# Altium footprint library Custom_Footprints.PcbLib: 10 footprints
Each footprint in its own frame and in the unit in brackets; x right, y up, seen from the top. Pads: shape width x height; smd on the part's side, far side on the other; paste and mask are expansions set on the pad; w line width, h text height; cw(c..) or ccw(c..) is an arc to the next point about the centre after c.
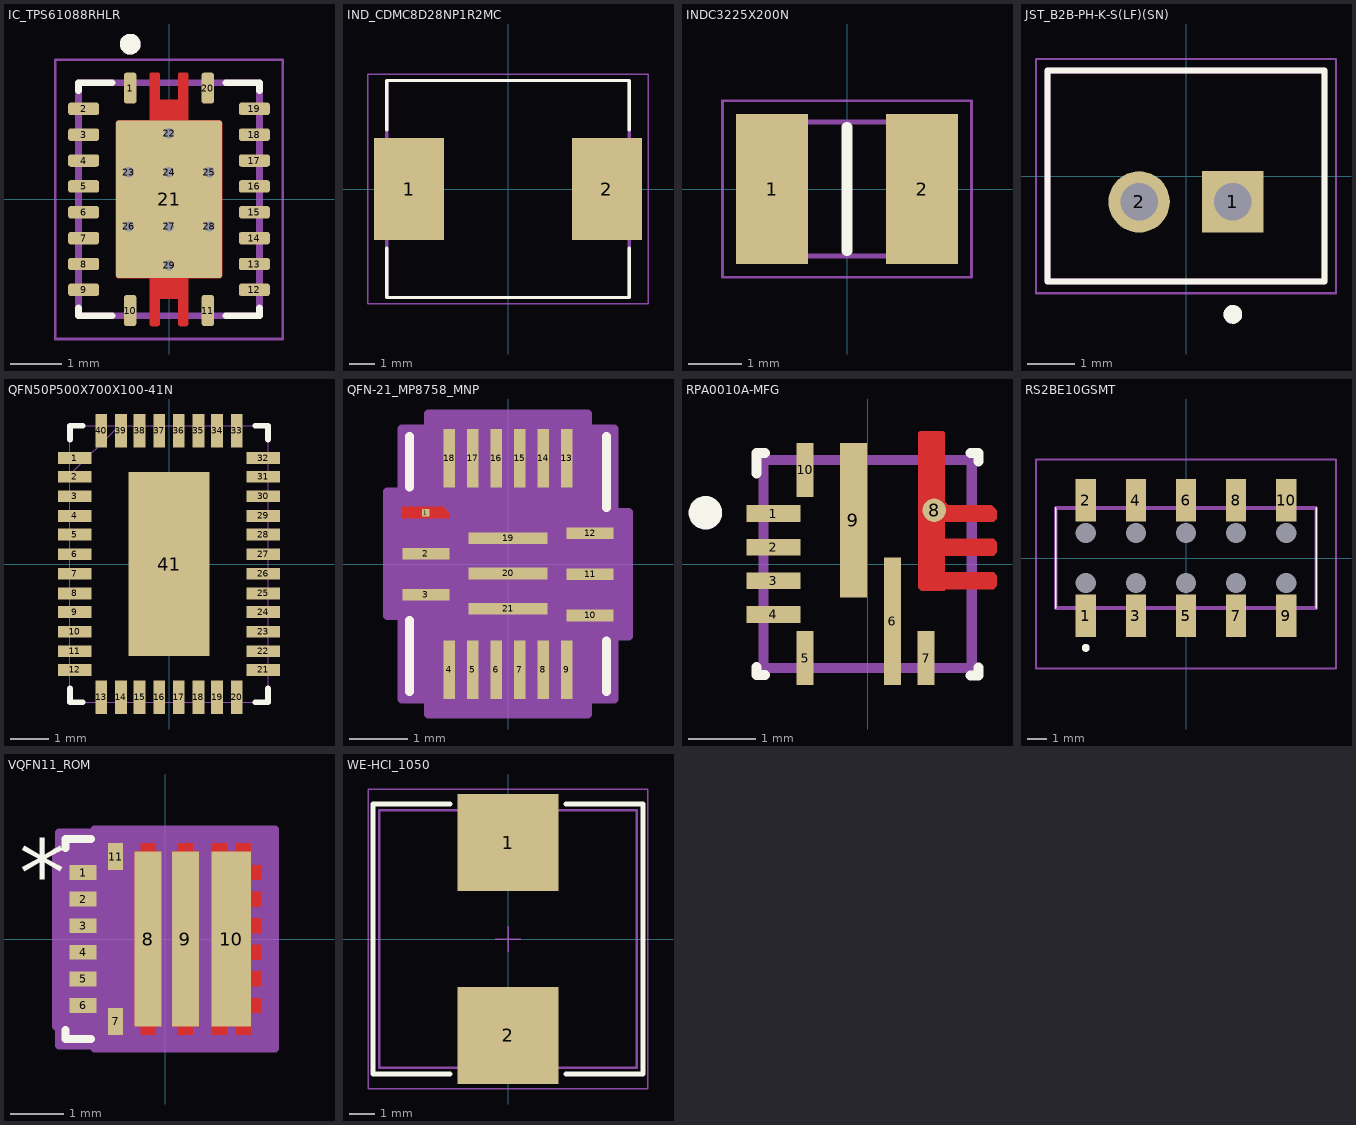
[diagram p0: the footprints below, top view; thin cyan lines are the x and y axes]

## IC_TPS61088RHLR [mm]
pads (29):
  rrect42% 0.24x0.6 smd: 1(-0.75,2.15) 10(-0.75,-2.15) 11(0.75,-2.15) 20(0.75,2.15)
  rrect42% 0.6x0.24 smd: 2(-1.65,1.75) 3(-1.65,1.25) 4(-1.65,0.75) 5(-1.65,0.25) 6(-1.65,-0.25) 7(-1.65,-0.75) 8(-1.65,-1.25) 9(-1.65,-1.75) 12(1.65,-1.75) 13(1.65,-1.25) 14(1.65,-0.75) 15(1.65,-0.25) 16(1.65,0.25) 17(1.65,0.75) 18(1.65,1.25) 19(1.65,1.75)
  rrect5% 2.05x3.05 smd paste-3: 21(0,0)
  round 0.3 hole 0.2: 22(0,1.275) 23(-0.775,0.525) 24(0,0.525) 25(0.775,0.525) 26(-0.775,-0.525) 27(0,-0.525) 28(0.775,-0.525) 29(0,-1.275)
Top Layer:
  region: 380 vertices and 0 holes, not listed, extent -1.025,-2.45 1.025,2.45
Top Overlay:
  circle w0.2: c-0.75,3 r0.1
  lines w0.127: -1.75,-2.1 -1.75,-2.25 -1.1,-2.25 ; -1.75,2.1 -1.75,2.25 -1.1,2.25 ; 1.1,-2.25 1.75,-2.25 1.75,-2.1 ; 1.1,2.25 1.75,2.25 1.75,2.1
Top Paste:
  drawing of 8 lines, arcs and shapes, not listed
Top Solder:
  drawing of 1 lines, arcs and shapes, not listed
Mechanical 13:
  circle w0.2: c-0.75,3 r0.1
  lines w0.127: -1.75,-2.25 1.75,-2.25 1.75,2.25 -1.75,2.25 -1.75,-2.25
Mechanical 15:
  lines w0.05: -2.2,-2.7 -2.2,2.7 2.2,2.7 2.2,-2.7 -2.2,-2.7

## IND_CDMC8D28NP1R2MC [mm]
height 3
pads (2):
  rect 2.75x4 smd paste+0 mask+0.102: 1(-3.875,0) 2(3.875,0)
Top Overlay:
  lines w0.127: -4.75,-2.315 -4.75,-4.25 4.75,-4.25 4.75,-2.315 ; -4.75,2.315 -4.75,4.25 4.75,4.25 4.75,2.315
Mechanical 13:
  lines w0.127: -4.75,-4.25 -4.75,4.25 4.75,4.25 4.75,-4.25 -4.75,-4.25
Mechanical 15:
  lines w0.05: -5.5,-4.5 -5.5,4.5 5.5,4.5 5.5,-4.5 -5.5,-4.5

## INDC3225X200N [mm]
pads (2):
  rect 1.35x2.8 smd: 1(-1.4,0) 2(1.4,0)
Top Overlay:
  lines w0.2: 0,-1.15 0,1.15
Mechanical 15:
  lines w0.1: -1.6,-1.25 1.6,-1.25 1.6,1.25 -1.6,1.25 -1.6,-1.25
Mechanical 20:
  lines w0.05: -2.325,-1.65 2.325,-1.65 2.325,1.65 -2.325,1.65 -2.325,-1.65
3D body "DFE322520FD-1R0M_P2.step": height 2, standoff 0, extent -1.6,-1.27 1.6,1.23

## JST_B2B-PH-K-S(LF)(SN) [mm]
pads (2):
  rect 1.308x1.308 / inner round 1.308 / far side rect 1.308x1.308 hole 0.8: 1(1,-0.55)
  round 1.308 hole 0.8: 2(-1,-0.55)
Top Overlay:
  circle w0.2: c1,-2.95 r0.1
  lines w0.127: -2.95,-2.25 2.95,-2.25 2.95,2.25 -2.95,2.25 -2.95,-2.25
Mechanical 13:
  circle w0.2: c1,-2.95 r0.1
  lines w0.127: -2.95,-2.25 -2.95,2.25 2.95,2.25 2.95,-2.25 -2.95,-2.25
Mechanical 15:
  lines w0.05: -3.2,-2.5 -3.2,2.5 3.2,2.5 3.2,-2.5 -3.2,-2.5
3D body "step_temp.STEP": height 6, standoff -3.4, extent -2.95,-2.25 2.95,2.25

## QFN50P500X700X100-41N [mil]
pads (41):
  rect 34x12 smd: 1(-96,108) 2(-96,89) 3(-96,69) 4(-96,49) 5(-96,30) 6(-96,10) 7(-96,-10) 8(-96,-30) 9(-96,-49) 10(-96,-69) 11(-96,-89) 12(-96,-108) 21(96,-108) 22(96,-89) 23(96,-69) 24(96,-49) 25(96,-30) 26(96,-10) 27(96,10) 28(96,30) 29(96,49) 30(96,69) 31(96,89) 32(96,108)
  rect 12x34 smd: 13(-69,-136) 14(-49,-136) 15(-30,-136) 16(-10,-136) 17(10,-136) 18(30,-136) 19(49,-136) 20(69,-136) 33(69,136) 34(49,136) 35(30,136) 36(10,136) 37(-10,136) 38(-30,136) 39(-49,136) 40(-69,136)
  rect 83x188 smd: 41(0,0)
Top Overlay:
  lines w6: -101,-127 -101,-141 -88,-141 ; -101,127 -101,141 -88,141 ; 88,-141 101,-141 101,-127 ; 88,141 101,141 101,127
Mechanical 13:
  lines w0: -101,-114 -101,-102 ; -101,-94 -101,-83 ; -101,-75 -101,-63 ; -101,-55 -101,-43 ; -101,-35 -101,-24 ; -101,-16 -101,-4 ; -101,4 -101,16 ; -101,24 -101,35 ; -101,43 -101,55 ; -101,63 -101,75 ; -101,83 -101,94 ; -101,91 -51,141 ; -101,102 -101,114 ; -75,-141 -63,-141 ; -75,141 -63,141 ; -55,-141 -43,-141 ; -55,141 -43,141 ; -35,-141 -24,-141 ; -35,141 -24,141 ; -16,-141 -4,-141 ; -16,141 -4,141 ; 4,-141 16,-141 ; 4,141 16,141 ; 24,-141 35,-141 ; 24,141 35,141 ; 43,-141 55,-141 ; 43,141 55,141 ; 63,-141 75,-141 ; 63,141 75,141 ; 101,-114 101,-102 ; 101,-94 101,-83 ; 101,-75 101,-63 ; 101,-55 101,-43 ; 101,-35 101,-24 ; 101,-16 101,-4 ; 101,4 101,16 ; 101,24 101,35 ; 101,43 101,55 ; 101,63 101,75 ; 101,83 101,94 ; 101,102 101,114 ; -101,-141 101,-141 101,141 -101,141 -101,-141

## QFN-21_MP8758_MNP [mm]
pads (21):
  rect 0.127x0.127 smd paste-0.064 mask-0.064: 1(-1.4,0.875)
  rect 0.8x0.2 smd paste+0 mask+0: 2(-1.4,0.175) 3(-1.4,-0.525) 10(1.4,-0.875) 11(1.4,-0.175) 12(1.4,0.525)
  rect 0.2x1 smd paste+0 mask+0: 4(-1,-1.8) 5(-0.6,-1.8) 6(-0.2,-1.8) 7(0.2,-1.8) 8(0.6,-1.8) 9(1,-1.8) 13(1,1.8) 14(0.6,1.8) 15(0.2,1.8) 16(-0.2,1.8) 17(-0.6,1.8) 18(-1,1.8)
  rect 1.35x0.2 smd paste+0 mask+0: 19(0,0.44) 20(0,-0.16) 21(0,-0.76)
Top Layer:
  region: -1.1,0.975 -1.8,0.975 -1.8,0.775 -1,0.775 -1,0.875
Top Overlay:
  lines w0.152: -1.676,-2.172 -1.676,-0.958 ; -1.676,1.308 -1.676,2.172 ; 1.676,-2.172 1.676,-1.308 ; 1.676,0.958 1.676,2.172
Top Paste:
  region: -1.1,0.975 -1.8,0.975 -1.8,0.775 -1,0.775 -1,0.875
Top Solder:
  region: -1.1,0.975 -1.8,0.975 -1.8,0.775 -1,0.775 -1,0.875
Mechanical 13:
  lines w0.025: -1.549,0.775 -0.279,2.045 ; -1.549,-2.045 1.549,-2.045 1.549,2.045 -1.549,2.045 -1.549,-2.045
Mechanical 15:
  region: 1.354,2.554 -1.354,2.554 -1.354,2.299 -1.803,2.299 -1.803,1.229 -2.054,1.229 -2.054,-0.879 -1.803,-0.879 -1.803,-2.299 -1.354,-2.299 -1.354,-2.554 1.354,-2.554 1.354,-2.299 1.803,-2.299 1.803,-1.229 2.054,-1.229 2.054,0.879 1.803,0.879 1.803,2.299 1.354,2.299
  lines w0.152: -2.054,-0.879 -2.054,1.229 -1.803,1.229 -1.803,2.299 -1.354,2.299 -1.354,2.554 1.354,2.554 1.354,2.299 1.803,2.299 1.803,0.879 2.054,0.879 2.054,-1.229 1.803,-1.229 1.803,-2.299 1.354,-2.299 1.354,-2.554 -1.354,-2.554 -1.354,-2.299 -1.803,-2.299 -1.803,-0.879 -2.054,-0.879

## RPA0010A-MFG [mm]
pads (10):
  rect 0.8x0.25 smd paste+0 mask+0: 1(-1.4,0.75) 2(-1.4,0.25) 3(-1.4,-0.25) 4(-1.4,-0.75)
  rect 0.25x0.8 smd paste+0 mask+0: 5(-0.93,-1.4) 7(0.87,-1.4) 10(-0.93,1.4)
  rect 0.25x1.9 smd paste-0.837 mask+0: 6(0.37,-0.85)
  round 0.35 smd paste+0 mask+0: 8(0.99,0.8)
  rect 0.4x2.3 smd paste-1.037 mask+0: 9(-0.21,0.65)
Top Layer:
  region: 1.125,1.975 0.775,1.975 0.75,1.95 0.75,-0.35 0.8,-0.4 1.15,-0.4 1.15,-0.375 1.875,-0.375 1.925,-0.325 1.925,-0.175 1.875,-0.125 1.15,-0.125 1.15,0.125 1.875,0.125 1.925,0.175 1.925,0.325 1.875,0.375 1.15,0.375 1.15,0.625 1.875,0.625 1.925,0.675 1.925,0.8 1.85,0.875 1.2,0.875 1.15,0.925 1.15,1.95
Top Overlay:
  circle w0.25: c-2.413,0.762 r0.125
  lines w0.15: -1.65,-1.53 -1.65,-1.65 -1.53,-1.65 ; -1.65,1.35 -1.65,1.65 -1.53,1.65 ; 1.53,-1.66 1.65,-1.66 1.65,-1.54 ; 1.53,1.65 1.65,1.65 ; 1.65,1.525 1.65,1.645
Top Paste:
  region: 0.27,-2 0.245,-1.975 0.245,-1.03 0.295,-0.98 0.445,-0.98 0.495,-1.03 0.495,-1.98 0.475,-2
  region: -0.41,1.965 -0.375,2 -0.05,2 -0.01,1.96 -0.01,0.805 -0.06,0.755 -0.36,0.755 -0.41,0.805
  region: -0.36,-0.299 -0.41,-0.249 -0.41,0.601 -0.36,0.651 -0.06,0.651 -0.01,0.601 -0.01,-0.249 -0.06,-0.299
  region: 0.295,-0.1 0.445,-0.1 0.494,-0.15 0.494,-0.8 0.445,-0.85 0.295,-0.85 0.245,-0.8 0.245,-0.15
  region: 1.125,1.975 0.775,1.975 0.75,1.95 0.75,-0.35 0.8,-0.4 1.15,-0.4 1.15,-0.375 1.875,-0.375 1.925,-0.325 1.925,-0.175 1.875,-0.125 1.15,-0.125 1.15,0.125 1.875,0.125 1.925,0.175 1.925,0.325 1.875,0.375 1.15,0.375 1.15,0.625 1.875,0.625 1.925,0.675 1.925,0.8 1.85,0.875 1.2,0.875 1.15,0.925 1.15,1.95
Top Solder:
  region: 1.125,1.975 0.775,1.975 0.75,1.95 0.75,-0.35 0.8,-0.4 1.15,-0.4 1.15,-0.375 1.875,-0.375 1.925,-0.325 1.925,-0.175 1.875,-0.125 1.15,-0.125 1.15,0.125 1.875,0.125 1.925,0.175 1.925,0.325 1.875,0.375 1.15,0.375 1.15,0.625 1.875,0.625 1.925,0.675 1.925,0.8 1.85,0.875 1.2,0.875 1.15,0.925 1.15,1.95
Mechanical 13:
  lines w0.15: -1.55,-1.55 1.55,-1.55 1.55,1.55 -1.55,1.55 -1.55,-1.55

## RS2BE10GSMT [mm]
pads (20):
  rect 1.02x2.15 smd: 1(-5.08,-2.925) 2(-5.08,2.925) 3(-2.54,-2.925) 4(-2.54,2.925) 5(0,-2.925) 6(0,2.925) 7(2.54,-2.925) 8(2.54,2.925) 9(5.08,-2.925) 10(5.08,2.925)
  round 0.51 hole 1.02 unplated: MH1(-5.08,-1.27) MH2(-5.08,1.27) MH3(-2.54,1.27) MH4(-2.54,-1.27) MH5(0,-1.27) MH6(0,1.27) MH7(2.54,1.27) MH8(2.54,-1.27) MH9(5.08,-1.27) MH10(5.08,1.27)
Top Overlay:
  lines w0.1: -6.6,-2.54 -6.6,2.54 ; 6.6,-2.54 6.6,2.54
  lines w0.3: -5.08,-4.6 ccw(c-5.08,-4.55) -5.08,-4.5 ccw(c-5.08,-4.55) -5.08,-4.6
Mechanical 15:
  lines w0.2: -6.6,-2.54 -6.6,2.54 6.6,2.54 6.6,-2.54 -6.6,-2.54
Mechanical 20:
  lines w0.1: -7.6,-5.6 -7.6,5 7.6,5 7.6,-5.6 -7.6,-5.6
3D body "RS2BE-10-G-SMT.stp": height 5.15, standoff -1.7, extent -6.6,-3.898 6.6,3.898

## VQFN11_ROM [mil]
pads (11):
  rect 20x11 smd paste+0 mask+0: 1(-61.02,49.23) 2(-61.02,29.54) 3(-61.02,9.85) 4(-61.02,-9.85) 5(-61.02,-29.54) 6(-61.02,-49.23)
  rect 11x20 smd paste+0 mask+0: 7(-37.01,-61.02) 11(-37.01,61.02)
  rect 20x130 smd paste-65 mask-65: 8(-12.79,0) 9(14.76,0)
  rect 29x130 smd paste-64.5 mask+0: 10(48.74,0)
Top Layer:
  region: -18.3,-65.03 -18.3,-71.03 -7.29,-71.03 -7.29,-65.03 -2.8,-65 -2.8,65 -7.29,65.03 -7.29,71.03 -18.3,71.03 -18.3,65.03 -22.8,65 -22.8,-65
  region: 45.24,-71.01 34.24,-71.01 34.24,71.03 45.24,71.03 45.24,65.02 52.24,65.02 52.24,71.03 63.24,71.03 63.24,54.73 71.02,54.73 71.02,43.73 63.24,43.73 63.24,35.03 71.02,35.03 71.02,24.04 63.24,24.04 63.24,15.35 71.02,15.35 71.02,4.34 63.24,4.34 63.24,-4.34 71.02,-4.34 71.02,-15.35 63.24,-15.35 63.24,-24.04 71.02,-24.04 71.02,-35.03 63.24,-35.03 63.24,-43.73 71.02,-43.73 71.02,-54.73 63.24,-54.73 63.24,-71.01 52.24,-71.01 52.24,-65 45.24,-65
  region: 9.26,-65.03 9.26,-71.03 20.26,-71.03 20.26,-65.03 24.76,-65 24.76,65 20.26,65.03 20.26,71.03 9.26,71.03 9.26,65.03 4.76,65 4.76,-65
Top Overlay:
  lines w6: -74,-67.48 -74,-74 -55.27,-74 ; -74,67.48 -74,74 -55.27,74
  text ".Designator" at -137.5,-25 h50
  text "*" at -108.52,24.23 h50
Top Paste:
  region: -18.3,-65.03 -18.3,-71.03 -7.29,-71.03 -7.29,-65.03 -2.8,-65 -2.8,65 -7.29,65.03 -7.29,71.03 -18.3,71.03 -18.3,65.03 -22.8,65 -22.8,-65
  region: 45.24,-71.01 34.24,-71.01 34.24,71.03 45.24,71.03 45.24,65.02 52.24,65.02 52.24,71.03 63.24,71.03 63.24,54.73 71.02,54.73 71.02,43.73 63.24,43.73 63.24,35.03 71.02,35.03 71.02,24.04 63.24,24.04 63.24,15.35 71.02,15.35 71.02,4.34 63.24,4.34 63.24,-4.34 71.02,-4.34 71.02,-15.35 63.24,-15.35 63.24,-24.04 71.02,-24.04 71.02,-35.03 63.24,-35.03 63.24,-43.73 71.02,-43.73 71.02,-54.73 63.24,-54.73 63.24,-71.01 52.24,-71.01 52.24,-65 45.24,-65
Top Solder:
  region: -18.3,-65.03 -18.3,-71.03 -7.29,-71.03 -7.29,-65.03 -2.8,-65 -2.8,65 -7.29,65.03 -7.29,71.03 -18.3,71.03 -18.3,65.03 -22.8,65 -22.8,-65
  region: 45.24,-71.01 34.24,-71.01 34.24,71.03 45.24,71.03 45.24,65.02 52.24,65.02 52.24,71.03 63.24,71.03 63.24,54.73 71.02,54.73 71.02,43.73 63.24,43.73 63.24,35.03 71.02,35.03 71.02,24.04 63.24,24.04 63.24,15.35 71.02,15.35 71.02,4.34 63.24,4.34 63.24,-4.34 71.02,-4.34 71.02,-15.35 63.24,-15.35 63.24,-24.04 71.02,-24.04 71.02,-35.03 63.24,-35.03 63.24,-43.73 71.02,-43.73 71.02,-54.73 63.24,-54.73 63.24,-71.01 52.24,-71.01 52.24,-65 45.24,-65
Mechanical 13:
  lines w1: -69,19 -19,69 ; -69,-69 69,-69 69,69 -69,69 -69,-69
  text "*" at -67.38,56.02 h50
  text ".Designator" at -137.5,-25 h50
Mechanical 15:
  region: 30.26,81.03 -52.51,81.03 -52.51,79 -79,79 -79,64.72 -81.02,64.72 -81.02,-64.72 -79,-64.72 -79,-79 -52.51,-79 -52.51,-81.03 30.26,-81.03 30.26,-81.01 81.02,-81.01 81.02,81.03
  lines w6: 30.26,-81.03 -52.51,-81.03 -52.51,-79 -79,-79 -79,-64.72 -81.02,-64.72 -81.02,64.72 -79,64.72 -79,79 -52.51,79 -52.51,81.03 30.26,81.03 30.26,81.03 81.02,81.03 81.02,-81.01 30.26,-81.01 ; 30.26,-81.03 30.26,-81.01

## WE-HCI_1050 [mm] "SMT Flat Wire High Current Inductor, body 10.2x10.2mm"
height 4.7
pads (2):
  rect 4x3.85 smd: 1(0,3.825) 2(0,-3.825)
Top Overlay:
  lines w0.2: -2.3,-5.35 -5.35,-5.35 -5.35,5.35 -2.3,5.35 ; 2.3,-5.35 5.35,-5.35 5.35,5.35 2.3,5.35
Top 3D Body:
  lines w0.1: -5.1,-5.1 -5.1,5.1 5.1,5.1 5.1,-5.1 -5.1,-5.1
Top Courtyard:
  lines w0.05: -0.5,0 0.5,0 ; 0,-0.5 0,0.5 ; -5.55,-5.95 5.55,-5.95 5.55,5.95 -5.55,5.95 -5.55,-5.95
Top Designator:
  text ".Designator" at -7.498,-0.5 h1.5
Top Component Outline:
  lines w0.1: -5.1,-5.1 -5.1,5.1 5.1,5.1 5.1,-5.1 -5.1,-5.1
3D body "WE-HCI-1050_rev1.stp": height 5, standoff 0, extent -5.1,-5.5 5.1,5.5